# EAGLE library part PCA9634 (library ct-bot)
NXP PCA9634 8-bit LED Controller
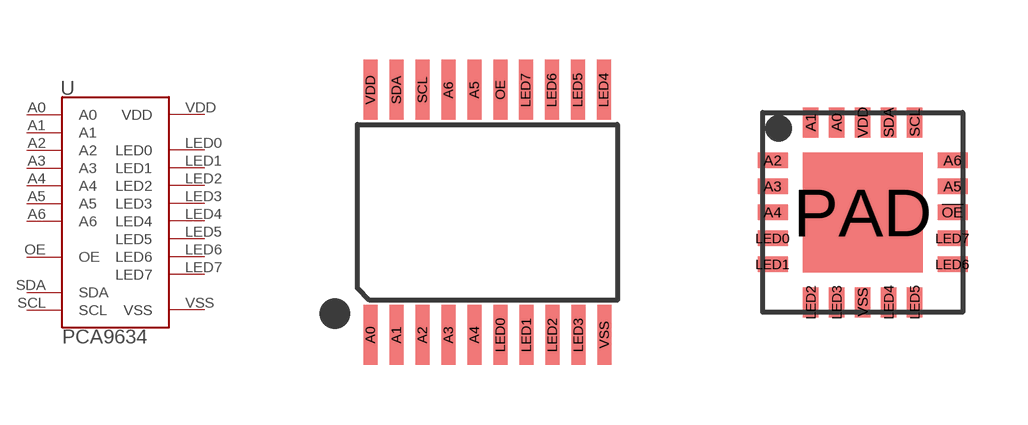
[diagram p12: symbol with the pads of PCA9634PW-TSSOP20; footprints PCA9634PW-TSSOP20, PCA9634PW-HVQFN20]

Designator prefix -

## PCA9634-TSSOP20  [PCA9634PW-TSSOP20]
A0  A0  in
A1  A1  in
A2  A2  in
A3  A3  in
A4  A4  in
A5  A5  in
A6  A6  in
LED0  LED0  out
LED1  LED1  out
LED2  LED2  out
LED3  LED3  out
LED4  LED4  out
LED5  LED5  out
LED6  LED6  out
LED7  LED7  out
OE  OE  in
SCL  SCL  in
SDA  SDA
VDD  VDD  pwr
VSS  VSS  pwr

## PCA9634-HVQFN20  [PCA9634PW-HVQFN20]
!OE  OE  in
A0  A0  in
A1  A1  in
A2  A2  in
A3  A3  in
A4  A4  in
A5  A5  in
A6  A6  in
LED0  LED0  out
LED1  LED1  out
LED2  LED2  out
LED3  LED3  out
LED4  LED4  out
LED5  LED5  out
LED6  LED6  out
LED7  LED7  out
PAD  VSS  pwr
SCL  SCL  in
SDA  SDA
VDD  VDD  pwr
VSS  VSS  pwr

## PCA9634-SO20  [SO20W]
1  A0  in
2  A1  in
3  A2  in
4  A3  in
5  A4  in
6  LED0  out
7  LED1  out
8  LED2  out
9  LED3  out
10  VSS  pwr
11  LED4  out
12  LED5  out
13  LED6  out
14  LED7  out
15  OE  in
16  A5  in
17  A6  in
18  SCL  in
19  SDA
20  VDD  pwr

## Footprint PCA9634PW-TSSOP20 (pad centres in mm)
NXP PCA9634PW 8-bit i2C-bus LED Controller
smd 0.35 x 1.5: A0 -2.925,-3.065; A1 -2.275,-3.065; A2 -1.625,-3.065; A3 -0.975,-3.065; A4 -0.325,-3.065; A5 -0.325,3.065; A6 -0.975,3.065; LED0 0.325,-3.065; LED1 0.975,-3.065; LED2 1.625,-3.065; LED3 2.275,-3.065; LED4 2.91,3.065; LED5 2.26,3.065; LED6 1.61,3.065; LED7 0.96,3.065; OE 0.325,3.065; SCL -1.625,3.065; SDA -2.275,3.065; VDD -2.925,3.065; VSS 2.925,-3.065

## Footprint PCA9634PW-HVQFN20 (pad centres in mm)
smd 0.75 x 0.38: !OE 2.25,0; A2 -2.25,1.3; A3 -2.25,0.65; A4 -2.25,0; A5 2.25,0.65; A6 2.25,1.3; LED0 -2.25,-0.65; LED1 -2.25,-1.3; LED6 2.25,-1.3; LED7 2.25,-0.65
smd 0.38 x 0.75: A0 -0.65,2.25; A1 -1.3,2.25; LED2 -1.3,-2.25; LED3 -0.65,-2.25; LED4 0.65,-2.25; LED5 1.3,-2.25; SCL 1.3,2.25; SDA 0.65,2.25; VDD 0,2.25; VSS 0,-2.25
smd 3 x 3: PAD 0,0

## Footprint SO20W (pad centres in mm)
Small Outline Package wide
smd 0.66 x 2.032: 1 -5.715,-5.029; 2 -4.445,-5.029; 3 -3.175,-5.029; 4 -1.905,-5.029; 5 -0.635,-5.029; 6 0.635,-5.029; 7 1.905,-5.029; 8 3.175,-5.029; 9 4.445,-5.029; 10 5.715,-5.029; 11 5.715,5.029; 12 4.445,5.029; 13 3.175,5.029; 14 1.905,5.029; 15 0.635,5.029; 16 -0.635,5.029; 17 -1.905,5.029; 18 -3.175,5.029; 19 -4.445,5.029; 20 -5.715,5.029